# Altium schematic symbol library Master JULY2019.SchLib: 264 symbols (part 3 of 4)
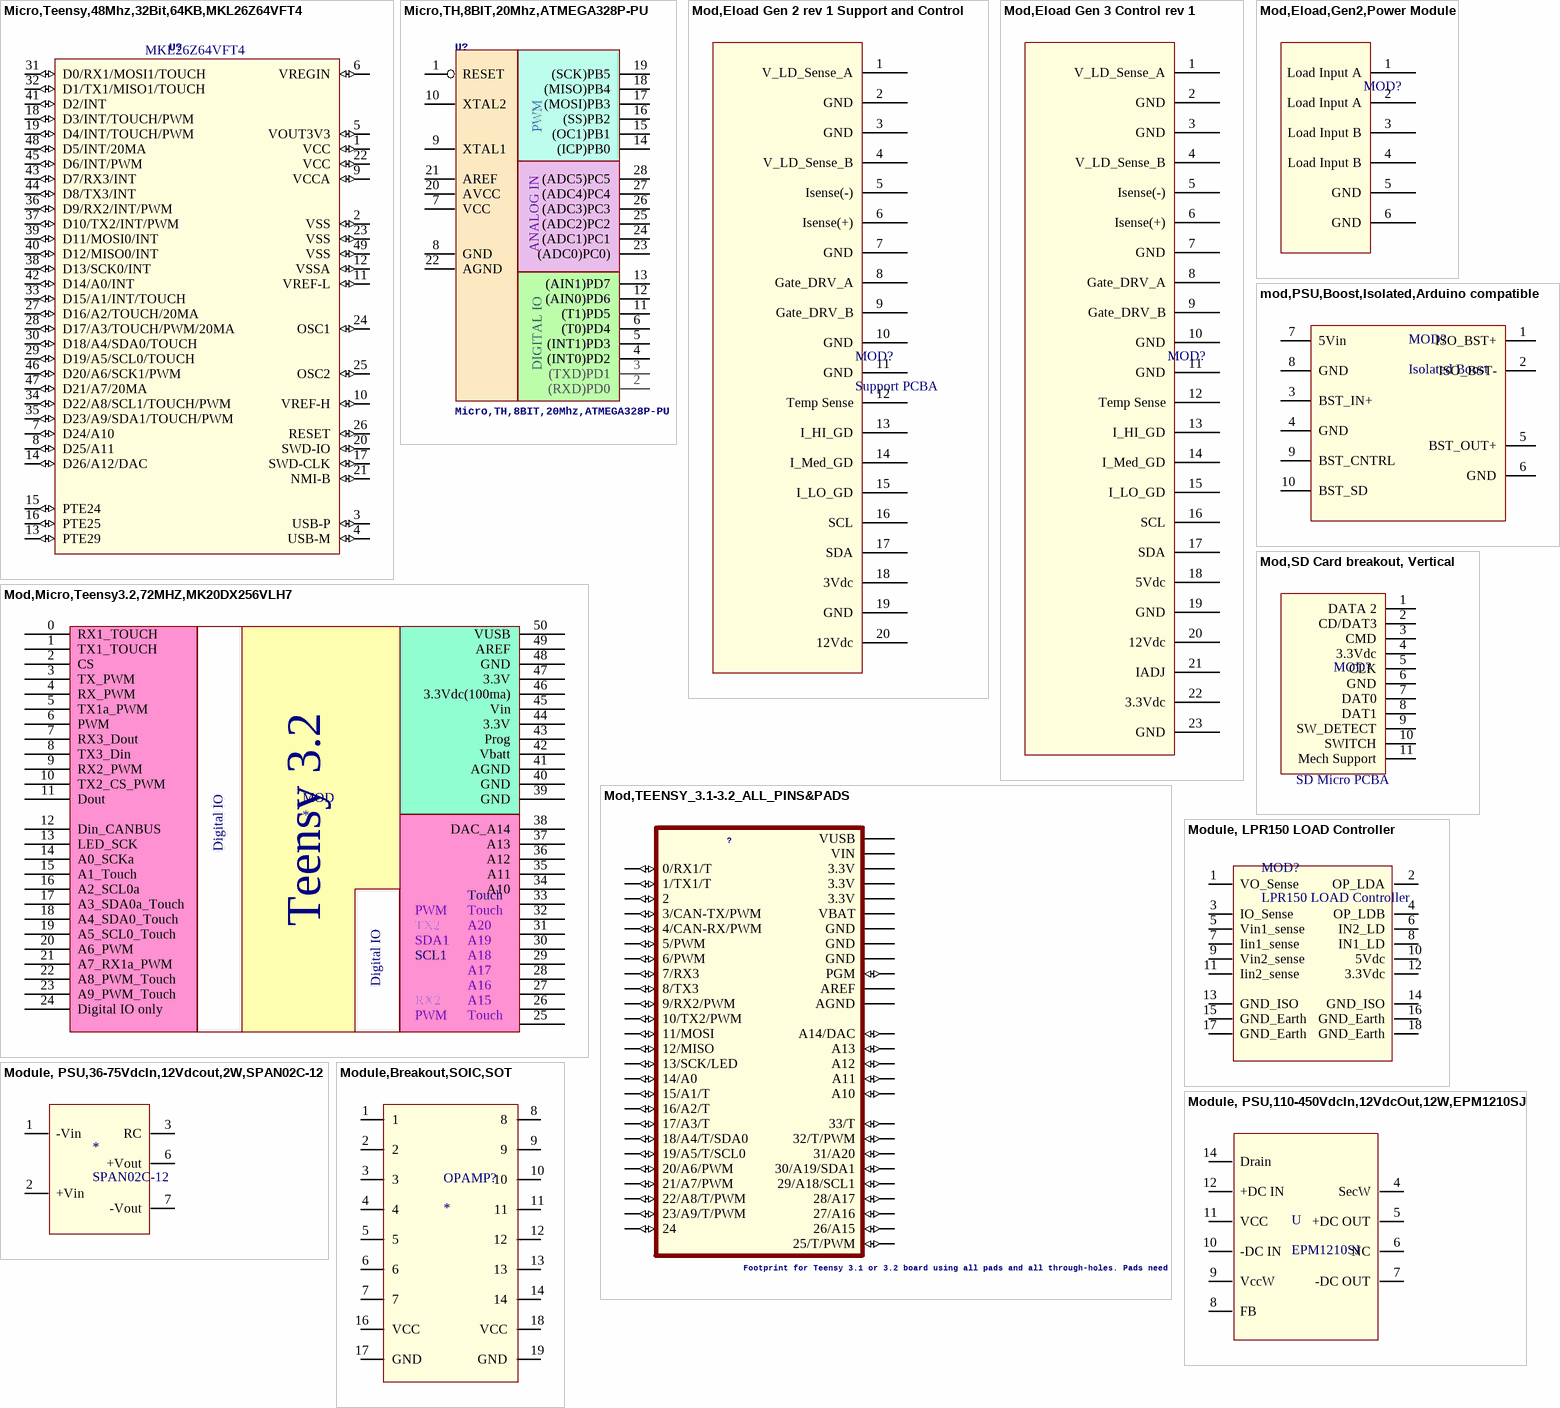
[diagram p11: symbols Micro,Teensy,48Mhz,32Bit,64KB,MKL26Z64VFT4 to Module,Breakout,SOIC,SOT]

## Mod,Eload,Gen2,Power Module
designator MOD?, comment Gen 2 Eload Power Module  (value not drawn)
footprint MOD,Eload Power Mod (Eload gen 2 rev 1 with control rev 1)
pins: 1 Load Input A, 2 Load Input A, 3 Load Input B, 4 Load Input B, 5 GND, 6 GND

## Mod,Micro,Teensy3.2,72MHZ,MK20DX256VLH7
designator MOD
Teensy3.2 USB Development Board
pins: 0 RX1_TOUCH, 1 TX1_TOUCH, 2 CS, 3 TX_PWM, 4 RX_PWM, 5 TX1a_PWM, 6 PWM, 7 RX3_Dout, 8 TX3_Din, 9 RX2_PWM, 10 TX2_CS_PWM, 11 Dout, 12 Din_CANBUS, 13 LED_SCK, 14 A0_SCKa, 15 A1_Touch, 16 A2_SCL0a, 17 A3_SDA0a_Touch, 18 A4_SDA0_Touch, 19 A5_SCL0_Touch, 20 A6_PWM, 21 A7_RX1a_PWM, 22 A8_PWM_Touch, 23 A9_PWM_Touch, 24 Digital IO only, 25, 26, 27, 28, 29, 30, 31, 32, 33, 34 A10, 35 A11, 36 A12, 37 A13, 38 DAC_A14, 39 GND, 40 GND, 41 AGND, 42 Vbatt, 43 Prog, 44 3.3V, 45 Vin, 46 3.3Vdc(100ma), 47 3.3V, 48 GND, 49 AREF, 50 VUSB
text: Digital IO; Touch; Teensy 3.2; TX2; A20; SDA1; A19; SCL1; A18; A17; A16; RX2; A15

## mod,PSU,Boost,Isolated,Arduino compatible
designator MOD?, comment Isolated Boost
PSU,Boost,Isolated,Arduino compatible; Volt Range: 5-18Vdc; Current: 100mA
footprint Mod,Boost,5-18Vdc,100ma,Isolated
pins: 1 ISO_BST+, 2 ISO_BST-, 3 BST_IN+, 4 GND, 5 BST_OUT+, 6 GND, 7 5Vin, 8 GND, 9 BST_CNTRL, 10 BST_SD

## Mod,SD Card breakout, Vertical
designator MOD?, comment Discription: SD Micro PCBA  (hidden comment: SD Card Connector Breakout)
footprint Mod, SD Card Connector Breakout (SD Card Connector Breakout)
pins: 1 DATA 2, 2 CD/DAT3, 3 CMD, 4 3.3Vdc, 5 CLK, 6 GND, 7 DAT0, 8 DAT1, 9 SW_DETECT, 10 SWITCH, 11 Mech Support

## Mod,TEENSY_3.1-3.2_ALL_PINS&PADS
designator ?, comment Footprint for Teensy 3.1 or 3.2 board using all pads and all through-holes. Pads need a 2x7 0.1" SMD header.
GateName_1: G$1; SymbolName_1: TEENSY_3.1-3.2_ALL_PINS_AND_PADS; DeviceSetName: TEENSY_3.1-3.2_ALL_PINS&PADS; LibraryName: Teensy_3_and_LC_Series_Boards_v1.4; Package: TEENSY_3.0-3.2_ALL_PINS_&_PADS
footprint TEENSY_3.0-3.2_ALL_PINS_&_PADS
pins: 0 0/RX1/T (io), 1 1/TX1/T (io), 2 (io), 3 3/CAN-TX/PWM (io), 3.3V (power), 3.3V1 3.3V (power), 3.3V2 3.3V (power), 4 4/CAN-RX/PWM (io), 5 5/PWM (io), 6 6/PWM (io), 7 7/RX3 (io), 8 8/TX3 (io), 9 9/RX2/PWM (io), 10 10/TX2/PWM (io), 11 11/MOSI (io), 12 12/MISO (io), 13 13/SCK/LED (io), 14/A0 (io), 15/A1 15/A1/T (io), 16/A2 16/A2/T (io), 17/A3 17/A3/T (io), 18/A4 18/A4/T/SDA0 (io), 19/A5 19/A5/T/SCL0 (io), 20/A6 20/A6/PWM (io), 21/A7 21/A7/PWM (io), 22/A8 22/A8/T/PWM (io), 23/A9 23/A9/T/PWM (io), 24 (io), 25 25/T/PWM (io), 26 26/A15 (io), 27 27/A16 (io), 28 28/A17 (io), 29 29/A18/SCL1 (io), 30 30/A19/SDA1 (io), 31 31/A20 (io), 32 32/T/PWM (io), 33 33/T (io), A10 (io), A11 (io), A12 (io), A13 (io), AGND (power), AREF (power), GND (power), GND1 GND (power), GND2 GND (power), PGM (io), RESET/DAC A14/DAC (io), VBAT (power), VIN (power), VUSB (power)

## Module, LPR150 LOAD Controller
designator MOD?, comment LPR150 LOAD Controller
footprint Module, LPR150 LOAD Controller
footprint Module, LPR150 LOAD Controller-No 3d
pins: 1 VO_Sense, 2 OP_LDA, 3 IO_Sense, 4 OP_LDB, 5 Vin1_sense, 6 IN2_LD, 7 Iin1_sense, 8 IN1_LD, 9 Vin2_sense, 10 5Vdc, 11 Iin2_sense, 12 3.3Vdc, 13 GND_ISO, 14 GND_ISO, 15 GND_Earth, 16 GND_Earth, 17 GND_Earth, 18 GND_Earth

## Module, PSU,36-75VdcIn,12Vdcout,2W,SPAN02C-12
designator *, comment SPAN02C-12
Isolated Module DC DC Converter 1 Output 12V 167mA 36V - 75V Input; Number of Outputs: 1; Power (Watts): 2W; Voltage - Isolation: 1500V; Efficiency: 82%; mfg P/N: SPAN02C-12; Type: Isolated Module; Voltage - Input (Min): 36V; Voltage - Input (Max): 75V; Voltage - Output 1: 12V; Current - Output (Max): 167mA; Applications: ITE (Commercial); Features: Remote On/Off, OCP, SCP, UVLO; Operating Temperature: -40°C ~ 90°C (With Derating); Mounting Type: Through Hole; Package / Case: 8-SIP Module, 7 Leads; Size / Dimension: 0.86" L x 0.36" W x 0.44" H (21.8mm x 9.2mm x 11.1mm)
footprint Module, PSU, SPAN02C-12 (Isolated Module DC DC Converter 1 Output 12V 1A 110V - 450V Input)
pins: 1 -Vin, 2 +Vin, 3 RC, 5 NC hidden, 6 +Vout, 7 -Vout, 8 NC hidden

## Module, PSU,110-450VdcIn,12VdcOut,12W,EPM1210SJ
designator U, comment EPM1210SJ
Isolated Module DC DC Converter 1 Output 12V 1A 110V - 450V Input; Number of Outputs: 1; Power (Watts): 12W; Voltage - Isolation: 3kV; Efficiency: 80%; mfg P/N: EPM1210SJ; Type: Isolated Module; Voltage - Input (Min): 110V; Voltage - Input (Max): 450V; Voltage - Output 1: 12V; Current - Output (Max): 1A; Applications: ITE (Commercial); Features: OCP, OTP, OVP; Operating Temperature: -20°C ~ 80°C; Mounting Type: Through Hole; Package / Case: 14-DIP Module; Size / Dimension: 1.30" L x 1.22" W x 0.81" H (33.0mm x 31.0mm x 20.7mm)
footprint Module, PSU, EPM1210SJ (Isolated Module DC DC Converter 1 Output 12V 1A 110V - 450V Input)
pins: 4 SecW, 5 +DC OUT, 6 NC, 7 -DC OUT, 8 FB, 9 VccW, 10 -DC IN, 11 VCC, 12 +DC IN, 14 Drain

## Module,Breakout,SOIC,SOT
designator OPAMP?
footprint Module, OPAMP PCB Breakout interface 2 (Module, OPAMP Breakout Board - SOIC8)
pins: 1, 2, 3, 4, 5, 6, 7, 8, 9, 10, 11, 12, 13, 14, 16 VCC, 17 GND, 18 VCC, 19 GND

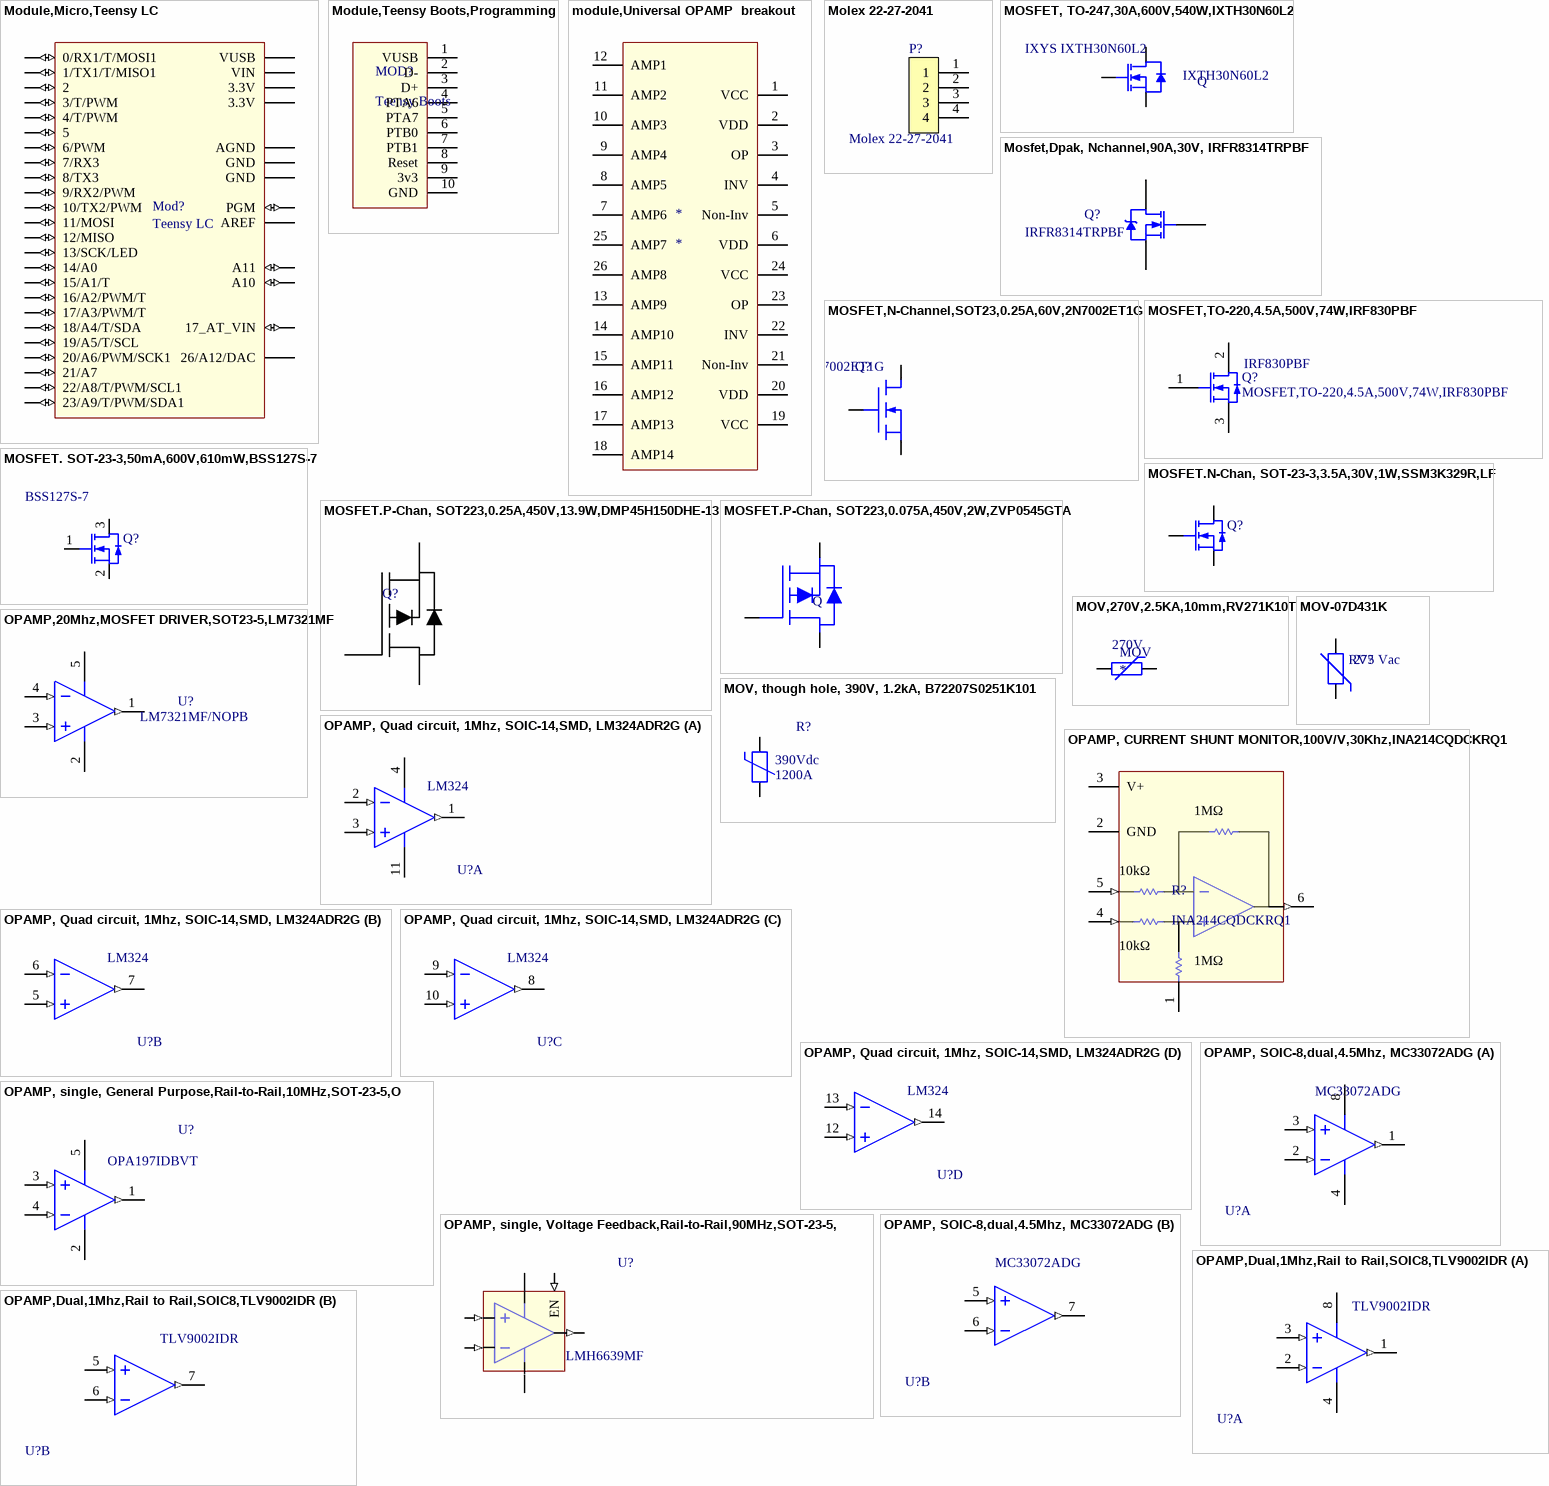
[diagram p6: symbols Module,Micro,Teensy LC to OPAMP,Dual,1Mhz,Rail to Rail,SOIC8,TLV9002IDR]

## Module,Micro,Teensy LC
designator Mod?, comment Teensy LC
DEV TEENSY LC 13305; Manufacturer 1: SparkFun; Manufacturer Part Number 1: DEV-13305; Supplier 1: Digi-Key; Stock 1: 113; Pricing 1: 1=14.38000 (USD); RoHS: No; ComponentLink1URL: https://media.digikey.com/pdf/Data%20Sheets/Sparkfun%20PDFs/DEV-13305_Web.pdf?src-supplier=Digi-Key; ComponentLink1Description: https://media.digikey.com/pdf/Data%20Sheets/Sparkfun%20PDFs/DEV-13305_Web.pdf?src-supplier=Digi-Key; Supplier Part Number 1: 1568-1233-ND
footprint TEENSY_3.0-3.2&LC_ALL_PINS
pins: 0 0/RX1/T/MOSI1 (io), 1 1/TX1/T/MISO1 (io), 2 (io), 3 3/T/PWM (io), 3.3V (power), 3.3V1 3.3V (power), 4 4/T/PWM (io), 5 (io), 6 6/PWM (io), 7 7/RX3 (io), 8 8/TX3 (io), 9 9/RX2/PWM (io), 10 10/TX2/PWM (io), 11 11/MOSI (io), 12 12/MISO (io), 13 13/SCK/LED (io), 14/A0 (io), 15/A1 15/A1/T (io), 16/A2 16/A2/PWM/T (io), 17/A3 17/A3/PWM/T (io), 18/A4 18/A4/T/SDA (io), 19/A5 19/A5/T/SCL (io), 20/A6 20/A6/PWM/SCK1 (io), 21/A7 (io), 22/A8 22/A8/T/PWM/SCL1 (io), 23/A9 23/A9/T/PWM/SDA1 (io), A10 (io), A11 (io), AGND (power), AREF (power), GND (power), GND1 GND (power), PGM (io), RESET/DAC 26/A12/DAC (power), VBAT 17_AT_VIN (io), VIN (power), VUSB (power)

## Module,Teensy Boots,Programming
designator MOD?, comment Teensy Boots
footprint Mod,Teensy Boots (Teensy bootloader breakout module)
pins: 1 VUSB, 2 D-, 3 D+, 4 PTA6, 5 PTA7, 6 PTB0, 7 PTB1, 8 Reset, 9 3v3, 10 GND

## module,Universal OPAMP  breakout
designator *
footprint Module, OPAMP PCB Breakout interface (Module, OPAMP Breakout Board - SOIC8)
pins: 1 VCC, 2 VDD, 3 OP, 4 INV, 5 Non-Inv, 6 VDD, 7 AMP6, 8 AMP5, 9 AMP4, 10 AMP3, 11 AMP2, 12 AMP1, 13 AMP9, 14 AMP10, 15 AMP11, 16 AMP12, 17 AMP13, 18 AMP14, 19 VCC, 20 VDD, 21 Non-Inv, 22 INV, 23 OP, 24 VCC, 25 AMP7, 26 AMP8

## Molex 22-27-2041
designator P?
2.54mm (.100") Pitch KK® Wire-to-Board Header, Vertical, with Friction Lock, 3 Circuits, Tin (Sn) Plating; Number of Positions: 4; Lead-Free Status: Lead Free; Gender: Male; Contact Resistance: 20.0 mΩ; Insulation Resistance: 50.0 GΩ; Voltage Rating (AC): 250 V; Current Rating: 4.00 A; Mounting Style: Through Hole, Vertical; Number of Contacts: 4; Contact Material: Brass; Housing Material: Nylon; Packaging: Bag; RoHS: Compliant; Size-Length: 10.2 mm; Contact Plating: Tin; Size-Height: 11.7 mm; Housing Color: Natural; Orientation: Vertical; Number of Rows: 1; Manufacturer Part Number: 22-27-2041; Pin Pitch: 2.54 mm; Lifecycle Status: Not Listed by Manufacturer; Color: White; Size-Width: 5.80 mm; Supplier 1: Newark; Supplier 2: Farnell; Supplier 3: Farnell
footprint conn, molex, 0.1", 4 pin (4 pin molex connect with 0.1" spacing)
pins: 1 (power), 2 (power), 3 (power), 4 (power)

## MOSFET, TO-247,30A,600V,540W,IXTH30N60L2
designator Q, comment IXYS IXTH30N60L2  Manufacturer Part Number: IXTH30N60L2
Trans MOSFET N-CH 600V 30A Automotive 3-Pin(3+Tab) TO-247AD; Polarity: N-Channel; Power Dissipation: 540 W; Octopart URL: https://octopart.com/ixth30n60l2-ixys-18669628; Operating Temperature: -55.0 °C to 150 °C; Number of Pins: 3; REACH SVHC Compliance: No SVHC; RoHS: Compliant; OctopartID: 771bbf0db241a8dc
footprint TO-247-RA (FM, 3-Leads, Body 5.02x15.94mm, Pitch 5.44mm)
footprint TO-247 Vertical (FM, 3-Leads, Body 5.02x15.94mm, Pitch 5.44mm)
pins: 1 GATE, 2 DRAIN, 3 SOURCE

## Mosfet,Dpak, Nchannel,90A,30V, IRFR8314TRPBF
designator Q?, comment Manufacturer Part Number: IRFR8314TRPBF  (hidden comment: Infineon IRFR8314TRPBF)
Single N-Channel 30 V 2.2 mOhm 36 nC HEXFET® Power Mosfet - DPAK; Lead-Free Status: Lead Free; Rds On (Max) @ Id, Vgs: 2.2 mOhm @ 90A, 10V; Drain to Source Voltage (Vdss): 30V; Power Dissipation (Max): 125W; Input Capacitance (Ciss) (Max) @ Vds: 4945pF @ 15V; Drive Voltage (Max Rds On, Min Rds On): 4.5V, 10V; Vgs (Max): ±20V; Lifecycle Status: Not Listed by Manufacturer; Operating Temperature: 175 °C (max); Polarity: N-Channel; RoHS: Compliant; Supplier Device Package: D-PAK (TO-252AA); Series: HEXFET®
footprint DPAK,3-Leads (DPAK, 3-Leads, Body 6.54x6.095mm, Pitch 2.29mm)
pins: 1 G, 2 S, 3 D

## MOSFET,N-Channel,SOT23,0.25A,60V,2N7002ET1G
designator Q?, comment 2N7002ET1G
Small Signal MOSFET, 60 V, 310 mA, Single, N-Channel, 3-Pin SOT-23, Pb-Free, Tape and Reel; Manufacturer: ON Semiconductor; Continuous Drain Current (Ids): 0.25A; Lead-Free Status: Lead Free; Drain to Source Voltage (Vds): 60.0 V; Power Dissipation (Max): 350mW (Ta); REACH SVHC Compliance: No SVHC; Number of Pins: 3; Halogen Free Status: Halogen Free; Case/Package: SOT-23-3; Polarity: N-Channel; RoHS: Compliant; Lifecycle Status: Active; Manufacturer Part Number: 2N7002ET1G
footprint SOT23-3
pins: 1 G, 2 S, 3 D

## MOSFET,TO-220,4.5A,500V,74W,IRF830PBF
designator Q?  Manufacturer Part Number: IRF830PBF
Single N-Channel 500 V 1.5 Ohms Flange Mount Power Mosfet - TO-220-3; Lead-Free Status: Lead Free; Current Rating: 4.50 A; Breakdown Voltage [Gate to Source]: -20.0 V to 20.0 V; Gate Charge: 38.0 nC; Rise Time: 16.0 ns; Drain to Source Resistance (on) (Rds): 1.50 Ω; Power Dissipation: 74.0 W; Input Capacitance: 610 pF; Drain to Source Voltage (Vds): 500 V; Lifecycle Status: Not Listed by Manufacturer; Voltage Rating (DC): 500 V; Continuous Drain Current (Ids): 4.50 A; Mounting Style: Through Hole; REACH SVHC Compliance: No SVHC; RoHS: Compliant; Number of Pins: 3; Polarity: N-Channel; Packaging: Tube
footprint TO-220 (TO, Thru-Hole, Vertical, Heatsink Mounted; 3 In-Line Leads; Pitch 2.54 mm)
pins: 1 G, 2 D, 3 S

## MOSFET. SOT-23-3,50mA,600V,610mW,BSS127S-7
designator Q?, comment Manufacturer Part Number: BSS127S-7  (hidden comment: Diodes Inc. BSS127S-7)
Single N-Channel 600 V 190 Ohm 1.08 nC 1.25 W Silicon SMT Mosfet - SOT-23; Lead-Free Status: Lead Free; Drain to Source Voltage (Vdss): 600Vdc; Current - Continuous Drain (Id) @ 25°C: 50mA; Power Dissipation (Max): 610mW; RoHS: Compliant; REACH SVHC Compliance: No SVHC; Mounting Style: Surface Mount; Lifecycle Status: Active; Supplier 1: Allied; Supplier 2: Digi-Key; Supplier 3: Digi-Key; Supplier 4: Digi-Key; Supplier 5: TME; Supplier Part Number 1: 70551124; Supplier Part Number 2: BSS127S-7DITR-ND; Supplier Part Number 3: BSS127S-7DICT-ND; Supplier Part Number 4: BSS127S-7DIDKR-ND; Supplier Part Number 5: BSS127S-7
footprint SOT23-3
pins: 1 G, 2 S, 3 D

## MOSFET.N-Chan, SOT-23-3,3.5A,30V,1W,SSM3K329R,LF
designator Q?, comment SSM3K329R,LF  (value not drawn)
N-Channel 30V 3.5A (Ta) 1W (Ta) Surface Mount SOT-23F; Lead-Free Status: Lead Free; Drain to Source Voltage (Vdss): 30Vdc; Technology MOSFET: (Metal Oxide); Drive Voltage (Max Rds On, Min Rds On): 1.8V, 4V; Rds On (Max) @ Id, Vgs: 126 mOhm @ 1A, 4V; Vgs(th) (Max) @ Id: 1V @ 1mA; Gate Charge (Qg) (Max) @ Vgs: 1.5nC @ 4V; Vgs (Max): ±12V; Input Capacitance (Ciss) (Max) @ Vds: 123pF @ 15V; RoHS: Compliant; REACH SVHC Compliance: No SVHC; Mounting Style: Surface Mount; Lifecycle Status: Active; Current - Continuous Drain (Id) @ 25°C: 3.5A; Power Dissipation (Max): 1W; FET Type: N-Channel; Operating Temperature: 150°C (TJ); Mounting Type: Surface Mount; Supplier Device Package: SOT-23F; Package / Case: SOT-23-3  Flat Leads; mfg P/N: SSM3K329R,LF
footprint SOT23-3
pins: 1 G, 2 S, 3 D

## MOSFET.P-Chan, SOT223,0.25A,450V,13.9W,DMP45H150DHE-13
designator Q?, comment DMP45H150DHE-13  (value not drawn)
P-Channel 450V 75mA (Ta) 2W (Ta) Surface Mount SOT-223; Manufacturer: Diodes Incorporated; Rds On (Max) @ Id, Vgs: 150Ohm @ 50mA, 10V; Vgs(th) (Max) @ Id: 4V @ 250µA; Vgs (Max): ±30V; Input Capacitance (Ciss) (Max) @ Vds: 59.2pF @ 25V; Power Dissipation (Max): 2W (Ta); Current - Continuous Drain (Id) @ 25°C: 250mA (Tc); Drive Voltage (Max Rds On, Min Rds On): 10V; Gate Charge (Qg) (Max) @ Vgs: 1.8nC @ 10V; mfg P/N: DMP45H150DHE-13; FET Type: P-Channel; Technology: MOSFET (Metal Oxide); Operating Temperature: -55°C ~ 150°C (TJ); Mounting Type: Surface Mount; Supplier Device Package: SOT-223; Package / Case: TO-261-4, TO-261AA; Drain to Source Voltage (Vdss): 450V
footprint SOT-223
pins: 1 G, 2 D, 3 S, 4 D

## MOSFET.P-Chan, SOT223,0.075A,450V,2W,ZVP0545GTA
designator Q, comment ZVP0545GTA  (value not drawn)
P-Channel 450V 75mA (Ta) 2W (Ta) Surface Mount SOT-223; Manufacturer: Diodes Incorporated; Rds On (Max) @ Id, Vgs: 150Ohm @ 50mA, 10V; Vgs(th) (Max) @ Id: 4.5V @ 1mA; Vgs (Max): ±20V; Input Capacitance (Ciss) (Max) @ Vds: 120pF @ 25V; Power Dissipation (Max): 2W (Ta); Drive Voltage (Max Rds On, Min Rds On): 10V; mfg P/N: ZVP0545GTA; FET Type: P-Channel; Technology: MOSFET (Metal Oxide); Operating Temperature: -55°C ~ 150°C (TJ); Mounting Type: Surface Mount; Supplier Device Package: SOT-223; Package / Case: TO-261-4, TO-261AA; Drain to Source Voltage (Vdss): 450V; Current - Continuous Drain (Id) @ 25°C: 75mA (Ta)
footprint SOT-223
pins: 1 G, 2 D, 3 S

## MOV,270V,2.5KA,10mm,RV271K10T
designator MOV  Varistor Voltage (Typ): 270V
VARISTOR 270V 2.5KA DISC 10MM; Maximum AC Volts: 175V; mfg P/N: RV271K10T; Maximum DC Volts: 225V; Varistor Voltage (Min): 243V; Varistor Voltage (Max): 297V; Energy: 37J; Number of Circuits: 1; Capacitance @ Frequency: 370pF @ 1kHz; Current - Surge: 2.5kA; Operating Temperature: -40°C ~ 85°C (TA); Mounting Type: Through Hole; Package / Case: Disc 10mm
footprint MOV,10MM Disc
pins: 1, 2

## MOV, though hole, 390V, 1.2kA, B72207S0251K101
designator R?  DC Clamping Voltage: 390Vdc  Clamping Current: 1200A  (hidden comment: MOV, though hole, 390V, 1.2kA, B72207S0251K101)
390V 1.2kA Varistor 1 Circuit Through Hole Disc 7mm; Lead-Free Status: Lead Free; Maximum AC Volts: 250Vac; Maximum DC Volts: 320V; Varistor Voltage (Min): 351V; Varistor Voltage (Max): 429V; Energy: 19J; Capacitance @ Frequency: 65pF @ 1kHz; Mounting Style: Through Hole; mfg P/N: B72207S0251K101; RoHS: Compliant; Octopart URL: http://octopart.com/b72207s251k101-epcos-2640242; Varistor Voltage (Typ): 390V; Operating Temperature: -40°C ~ 105°C (TA); Mounting Type: Through Hole; Package / Case: Disc 7mm
footprint MOV, 5mm spacing
pins: 1, 2

## MOV-07D431K
designator RV?, comment Maximum AC Voltage Rating: 275 Vac  (hidden comment: Bourns Inc. MOV-07D431K)
VARISTOR 460V 7MM RADIAL; Maximum DC Voltage Rating: 350 V; Varistor Voltage: 430 Vdc; Clamping Current: 10 A; Rad Hard: No; Maximum Surge Current: 1200 A; Capacitance Value: 115 pF; Packaging: Bulk; Manufacturer Part Number: MOV-07D431K; Operating Temperature: -40 to 85 °C
footprint MOV, 5mm spacing
pins: 1, 2

## OPAMP,20Mhz,MOSFET DRIVER,SOT23-5,LM7321MF
designator U?, comment LM7321MF/NOPB
Single Rail-to-Rail Input/Output, ±15V, High Output Current and Unlimited Capacitive Load Operational Amplifier, 5-pin SOT-23, Pb-Free; Bandwidth: 20000000.0 Hz; Input Offset Drift: 2e-06 V/K; Lead-Free Status: Lead Free; Number of Channels: 1; Output Current: 0.06 A; Slew Rate: 18.0 V/μs; Case/Package: SOIC; Gain Bandwidth Product: 20000000.0 Hz; Lifecycle Status: Active; Mounting Style: Surface Mount; Number of Pins: 5; Packaging: Tape & Reel (TR); REACH SVHC Compliance: No SVHC; RoHS: Compliant; mfg P/N: LM7321MF/NOPB; Supplier 1: Digi-Key; Supplier Part Number 1: LM7321MF/NOPBCT-ND; Supplier 2: LCSC; Supplier Part Number 2: C128614
footprint SOT23-5
pins: 1 OUT (out), 2 V- (power), 3 IN+ (in), 4 IN- (in), 5 V+ (power)

## OPAMP, CURRENT SHUNT MONITOR,100V/V,30Khz,INA214CQDCKRQ1
designator R?, comment INA214CQDCKRQ1
Current Sense Amplifier 1 Circuit SC-70-6; Manufacturer: Texas Instruments; Slew Rate: 0.4 V/µs; Gain Bandwidth Product: 30kHz; Current - Input Bias: 28µA; Voltage - Input Offset: 1µV; Current - Supply: 65µA; Voltage - Supply, Single/Dual (±): 2.7 V ~ 26 V; Amplifier Type: Current Sense; Operating Temperature: -40°C ~ 125°C; Mounting Type: Surface Mount; Package / Case: 6-TSSOP, SC-88, SOT-363; Supplier Device Package: SC-70-6; Supplier 1: Digi-Key; Supplier Part Number 1: 296-51151-1-ND
footprint SC-70-6
pins: 1 REF, 2 GND (power), 3 V+ (power), 4 IN+  (in), 5 IN1- (in), 6 OUT1 (out)
text: 1MΩ; 10kΩ

## OPAMP, Quad circuit, 1Mhz, SOIC-14,SMD, LM324ADR2G
designator U?, comment Mfg P/N: LM324  (hidden comment: LM324ADR2G)
Single Supply Quad Operational Amplifier, 3 to 32 V, 0 to 70 degC, 14-Pin SOIC, Pb-Free, Tape and Reel; Bandwidth: 1MHz; Lead-Free Status: Lead Free; Number of Channels: 4; Slew Rate: 0.6 V/μs; Case/Package: SOIC; Halogen Free Status: Halogen Free; Lifecycle Status: Active; Mounting Style: Surface Mount; Number of Circuits: 4; Number of Pins: 14; Packaging: Cut Tape (CT); RoHS: Compliant; Supplier 1: Digi-Key; Supplier Part Number 1: LM324ADR2GOSCT-ND; Supplier 2: LCSC; Supplier Part Number 2: C81465
footprint SOIC-14 (SOIC, 14-Leads, Body 8.75x4mm, Pitch 1.27mm)
part A pins: 1 OUT1 (out), 2 IN1- (in), 3 IN1+ (in), 4 VCC (power), 11 GND (power)
part B pins: 5 IN2+ (in), 6 IN2- (in), 7 OUT2 (out)
part C pins: 8 OUT3 (out), 9 IN3- (in), 10 IN3+ (in)
part D pins: 12 IN4+ (in), 13 IN4- (in), 14 OUT4 (out)

## OPAMP, single, General Purpose,Rail-to-Rail,10MHz,SOT-23-5,OPA197IDBVT
designator U?, comment OPA197IDBVT
General Purpose Amplifier 1 Circuit Rail-to-Rail SOT-23-5; Manufacturer: Texas Instruments; Supply Current: 1mA; Number of Channels: 1; Slew Rate: 20V/μs; Gain Bandwidth Product: 10MHz; Voltage - Input Offset: 25uV; Current - Output / Channel: 65mA; Current - Input Bias: 5pA; Voltage - Supply, Single/Dual (±): 4.5 V ~ 36 V, ±2.25 V ~ 18 V; REACH SVHC Compliance: No SVHC; Operating Temperature: -40°C ~ 125°C; Supplier Device Package: SOT-23-5; Supplier 1: LCSC; Supplier Part Number 1: C131929; Supplier 2: Digi-Key; Supplier Part Number 2: 296-44076-6-ND; Mfg P/N: OPA197IDBVT
footprint SOT23-5
pins: 1 1OUT (out), 2 V- (power), 3 1IN+ (in), 4 1IN- (in), 5 V+ (power)

## OPAMP, single, Voltage Feedback,Rail-to-Rail,90MHz,SOT-23-5,LMH6639MF
designator U?, comment Mfg P/N: LMH6639MF  (hidden comment: OPA197IDBVT)
IC OPAMP VFB 90MHZ RRO SOT23-6; Manufacturer: Texas Instruments; Supply Current: 4.18mA; Number of Channels: 1; Slew Rate: 200 V/µs; Voltage - Input Offset: 1.3mV; Current - Output / Channel: 112mA; Current - Input Bias: 1.4µA; Voltage - Supply, Single/Dual (±): 3 V ~ 12 V, ±1.5 V ~ 6 V; Amplifier Type: Voltage Feedback; REACH SVHC Compliance: No SVHC; Gain Bandwidth Product: 90MHz; Operating Temperature: -40°C ~ 85°C; Supplier Device Package: SOT-23-6; Supplier 1: Digi-Key; Supplier Part Number 1: 296-44076-6-ND; Supplier 2: LCSC; Supplier Part Number 2: C131929
footprint SOT23-6 (SOT23, 6-Leads, Body 3.0x1.7mm, Pitch 0.95mm, Lead Span 2.9mm, IPC High Density)
pins: 1 1OUT (out), 2 V- (power), 3 1IN+ (in), 4 1IN- (in), 5 EN (in), 6 V+ (power)

## OPAMP, SOIC-8,dual,4.5Mhz, MC33072ADG
designator U?, comment MC33072ADG
Single Supply Operational Amplifier, 3 to 44 V, -40 to 85 degC, 8-Pin SOIC, Pb-Free, Tube; Bandwidth: 4.5MHz; Lead-Free Status: Lead Free; Number of Circuits: 2; Slew Rate: 13.0 V/μs; Supply Voltage (DC): 44.0 V; Case/Package: SOIC; Halogen Free Status: Halogen Free; Lifecycle Status: Active; Mounting Style: Surface Mount; Number of Pins: 8; Packaging: Tube; REACH SVHC Compliance: No SVHC; RoHS: Compliant; Supplier 1: LCSC; Supplier Part Number 1: C26356; Supplier 2: Digi-Key; Supplier Part Number 2: MC33072ADR2GOSCT-ND; mfg P/N: MC33072ADG
footprint SOIC-8 (SOIC, 8-Leads, Body 4.9x3.9mm, Pitch 1.27mm, IPC Medium Density)
part A pins: 1 OUT1 (out), 2 IN1- (in), 3 IN1+ (in), 4 GND (oe), 8 VCC (oe)
part B pins: 5 IN2+ (in), 6 IN2- (in), 7 OUT2 (out)

## OPAMP,Dual,1Mhz,Rail to Rail,SOIC8,TLV9002IDR
designator U?, comment TLV9002IDR
General Purpose Amplifier 2 Circuit Rail-to-Rail 8-SOIC; Bandwidth: 1MHz; Lead-Free Status: Lead Free; Number of Circuits: 2; Slew Rate: 2 V/μs; Supply Voltage (DC): 1.8 V ~ 5.5 V; Voltage - Input Offset: 400µV; Current - Input Bias: 5pA; Current - Supply: 60µA; Case/Package: SOIC; Halogen Free Status: Halogen Free; Lifecycle Status: Active; Mounting Style: Surface Mount; Number of Pins: 8; Packaging: Tube; REACH SVHC Compliance: No SVHC; RoHS: Compliant; Operating Temperature: -40°C ~ 125°C (TA); Supplier 1: Digi-Key; Supplier Part Number 1: 296-47596-1-ND; Supplier 2: LCSC; Supplier Part Number 2: C398360; mfg P/N: TLV9002IDR
footprint SOIC-8 (SOIC, 8-Leads, Body 4.9x3.9mm, Pitch 1.27mm, IPC Medium Density)
part A pins: 1 OUT1 (out), 2 IN1- (in), 3 IN1+ (in), 4 Gnd (power), 8 Vcc (power)
part B pins: 5 IN2+ (in), 6 IN2- (in), 7 OUT2 (out)

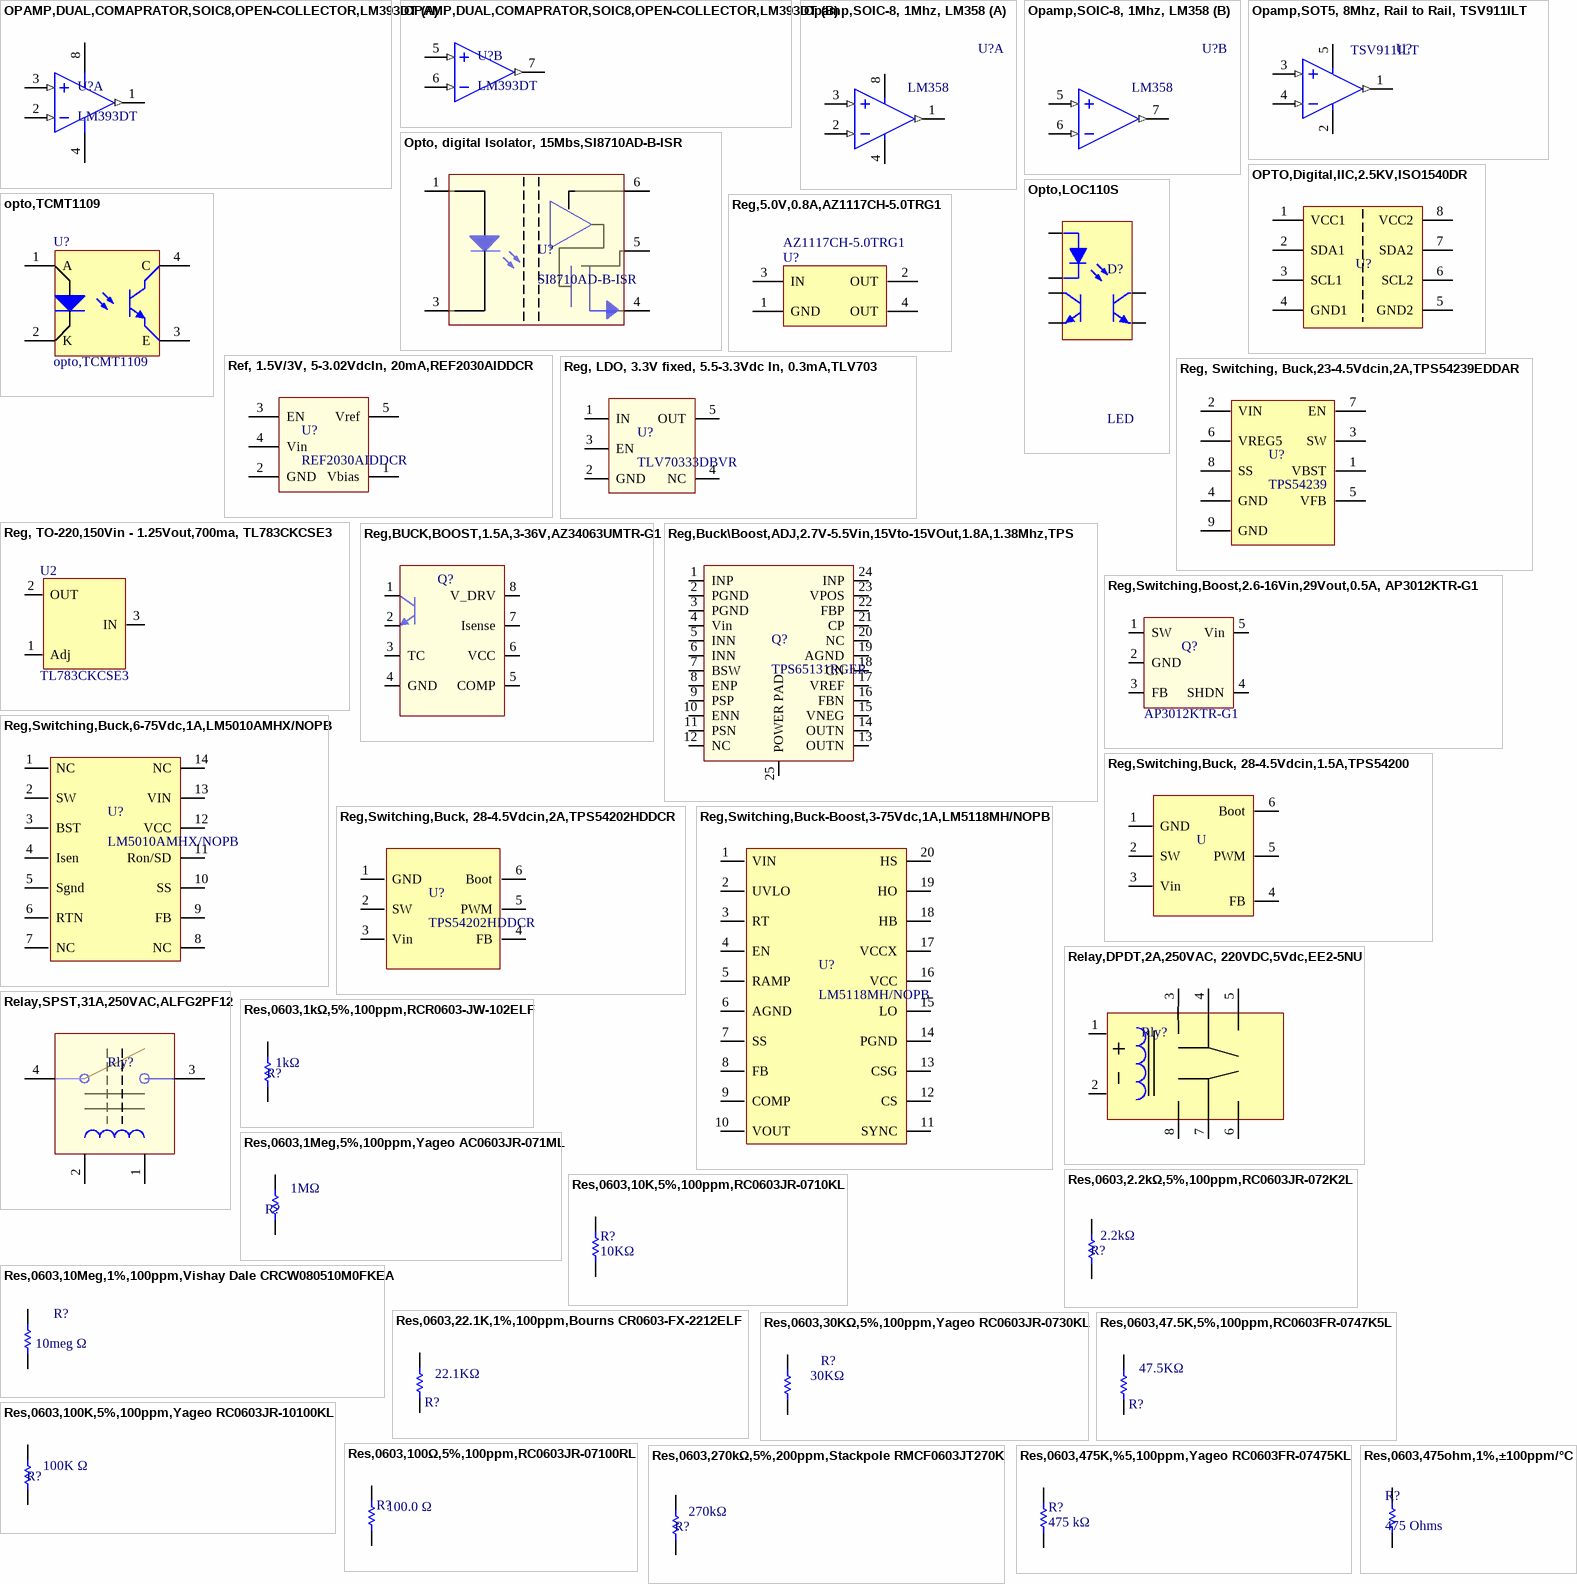
[diagram p7: symbols OPAMP,DUAL,COMAPRATOR,SOIC8,OPEN-COLLECTOR,LM393DT to Res,0603,475ohm,1%,±100ppm/°C]

## OPAMP,DUAL,COMAPRATOR,SOIC8,OPEN-COLLECTOR,LM393DT
designator U?, comment LM393DT
IC COMPARATOR LP DUAL 8-SOIC; Manufacturer: STMicroelectronics; Number of Elements: 2; Output Type: CMOS, DTL, ECL, MOS, Open-Collector, TTL; Voltage - Supply, Single/Dual (±): 2V ~ 36V, ±1V ~ 18V; Voltage - Input Offset (Max): 5mV @ 30V; Current - Input Bias (Max): 0.25µA @ 5V; Current - Output (Typ): 18mA @ 5V; Current - Quiescent (Max): 2.5mA; Package / Case 8-SOIC: (0.154", 3.90mm Width); mfg P/N:: LM393DT; Part Status: Active; Type: General Purpose; Operating Temperature: 0°C ~ 70°C; Mounting Type: Surface Mount; Supplier Device Package: 8-SO; Base Part Number: LM393; Supplier 1: Digi-Key; Supplier Part Number 1: 497-1593-1-ND; Supplier 2: LCSC; Supplier Part Number 2: C32901
footprint SOIC-8 (SOIC, 8-Leads, Body 4.9x3.9mm, Pitch 1.27mm, IPC Medium Density)
part A pins: 1 OUT1 (out), 2 IN1- (in), 3 IN1+ (in), 4 Gnd (power), 8 Vcc (power)
part B pins: 5 IN2+ (in), 6 IN2- (in), 7 OUT2 (out)

## Opamp,SOIC-8, 1Mhz, LM358
designator U?, comment LM358
IC OPAMP GP 1MHZ 8SOIC; Supply Current: 0.0007 A; Number of Channels: 2; Slew Rate: 0.6 V/μs; REACH SVHC Compliance: No SVHC; Supplier 1: Digi-Key; Supplier Part Number 1: 296-1014-1-ND; Supplier 2: LCSC; Supplier Part Number 2: C5423; mfg P/N: LM358
footprint SOIC-8 (SOIC, 8-Leads, Body 4.9x3.9mm, Pitch 1.27mm, IPC Medium Density)
part A pins: 1 1OUT (out), 2 1IN- (in), 3 1IN+ (in), 4 -Vin, 8 +Vin
part B pins: 5 2IN+ (in), 6 2IN- (in), 7 2OUT (out)

## Opamp,SOT5, 8Mhz, Rail to Rail, TSV911ILT
designator U?, comment TSV911ILT
General Purpose Amplifier 1 Circuit Rail-to-Rail SOT-23-5; Amplifier: Type General Purpose; Number of Circuits: 1; Slew Rate: 4.5 V/µs; Gain Bandwidth Product: 8MHz; Current - Input Bias: 1pA; Voltage - Input Offset: 100µV; Current - Supply: 820µA; Current - Output / Channel: 35mA; Voltage - Supply, Single/Dual (±): 2.5 V ~ 5.5 V; Output Type: Rail-to-Rail; Operating Temperature: -40°C ~ 125°C; Mounting Type: Surface Mount; Package / Case: SC-74A, SOT-753; Supplier Device Package: SOT-23-5; Supplier 1: Digi-Key; Supplier Part Number 1: 497-6000-1-ND; mfg P/N: TSV911ILT
footprint SOT23-5
pins: 1 1OUT (out), 2 -Vin, 3 1IN+ (in), 4 1IN- (in), 5 +Vin

## Opto, digital Isolator, 15Mbs,SI8710AD-B-ISR
designator U?, comment SI8710AD-B-ISR
DGTL ISO 5KV 1CH GEN PURP 6DIPGW; Detailed Description: General Purpose Digital Isolator 5000Vrms 1 Channel 15Mbps 20kV/µs CMTI 6-SOIC (0.295", 7.50mm Width); Isolated Power: No; Number of Channels: 1; Inputs - Side 1/Side 2: 1/0; Channel Type: Unidirectional; Voltage - Isolation: 5000Vrms; Common Mode Transient Immunity: (Min) 20kV/µs; Data Rate: 15Mbps; Propagation Delay tpLH / tpHL (Max): 60ns, 60ns; Pulse Width Distortion (Max): 20ns; Rise / Fall Time (Typ): 15ns, 5ns; Voltage - Supply: 3 V ~ 30 V; mfg P/N: SI8710AD-B-ISR; Technology: Capacitive Coupling; Type: General Purpose; Operating Temperature: -40°C ~ 125°C; Mounting Type: Surface Mount; Package / Case: 6-SOIC (0.295", 7.50mm Width); Supplier Device Package: 6-SDIP Gull Wing
footprint SOIC-6-Wide
pins: 1 A, 3 C, 4 GND, 5 VO, 6 VDD

## OPTO,Digital,IIC,2.5KV,ISO1540DR
designator U?  Pulse Width Distortion (PWD): 21ns  (hidden comment: OPTO,Digital,IIC,2.5KV,ISO1540DR)
DGTL ISO 2.5KV 2CH I2C 8SOIC; Manufacturer 1: Texas Instruments; Number of Channels: 2; Data Rate: 1Mbps; Min Supply Voltage: 3V; Max Supply Voltage: 5.5V; Nominal Supply Current: 3.6mA; Channel Type: Bidirectional; Propagation Delay: 70ns; Isolated Power: No; Working Voltage: 566V; Supplier 1: Digi-Key; Stock 1: 33237; Pricing 1: 1=4.80000, 10=4.31400, 100=3.53500, 500=3.00924, 1000=2.53792 (USD); RoHS: Yes; Mount: Surface Mount; Case/Package: SOIC; Number of Pins: 8; Min Operating Temperature: -40°C; Max Operating Temperature: 125°C; Packaging: Tape and Reel; Package Quantity: 1; REACH SVHC: No SVHC; Lead Free: Lead Free; Supplier Part Number 1: 296-34871-1-ND; mfg P/N: ISO1540DR
footprint SOIC-8 (SOIC, 8-Leads, Body 4.9x3.9mm, Pitch 1.27mm, IPC Medium Density)
pins: 1 VCC1, 2 SDA1, 3 SCL1, 4 GND1, 5 GND2, 6 SCL2, 7 SDA2, 8 VCC2

## Opto,LOC110S
designator D?, comment LED
LOC110 Series 1 Channel 3750 Vrms 200 KHz Phototransistor Optocoupler - DIP-8; Supplier 1: Digi-Key; Supplier 2: Digi-Key; Supplier 3: Digi-Key; Supplier Part Number 1: CLA114TR-ND; Supplier Part Number 2: LOC110S-ND; Supplier Part Number 3: CLA114CT-ND
footprint DIP, 8-Leads,SMD (DIP, 8-Leads, Body 9.59x6.35mm, Pitch 2.54mm)
pins: 1 LED-, 2 LED+, 3 +Vcc1, 4 I1, 5 I2, 6 +Vcc2

## opto,TCMT1109
designator U?
Optocoupler DC-IN 1-CH Transistor DC-OUT 4-Pin Mini-Flat T/R; Input Current: 0.06 A; Isolation Voltage: 3750.0 V; Lead-Free Status: Lead Free; Number of Channels: 1; Output Voltage: 70.0 V; Mounting Style: Surface Mount; Number of Pins: 4; Packaging: Tape & Reel (TR); REACH SVHC Compliance: No SVHC; RoHS: Compliant; Voltage Rating (DC): 70.0 V
footprint SSOP, 4-Leads (SSOP, 4-Leads, Body 4.45x2.65mm, Pitch 1.27mm)
pins: 1 A, 2 K, 3 E, 4 C

## Ref, 1.5V/3V, 5-3.02VdcIn, 20mA,REF2030AIDDCR
designator U?, comment REF2030AIDDCR
IC VREF SERIES 1.5V/3V 5SOT; Output Type: Fixed; Voltage - Output (Min/Fixed): 1.5/3Vdc; Current - Output: 20mA; Current - Supply: 460µA; Tolerance: ±0.05%; Temperature Coefficient: 8ppm/°C; Noise - 0.1Hz to 10Hz: 12ppmp-p; mfg P/N: REF2030AIDDCR; Operating Temperature: -40°C ~ 125°C (TJ); Mounting Type: Surface Mount; Package / Case: SOT-23-5 Thin, TSOT-23-5; Supplier Device Package: SOT-23-5
footprint SOT23-5
pins: 1 Vbias, 2 GND, 3 EN, 4 Vin, 5 Vref

## Reg,5.0V,0.8A,AZ1117CH-5.0TRG1
designator U?, comment AZ1117CH-5.0TRG1
AZ1117C Series 5 V 800 mA Fixed Low Dropout Linear Regulator - SOT-223; Voltage: 5.0V; Lead-Free Status: Lead Free; Temp Range: -20°C to +125°C; Current: 0.8A; Rule: PcbType=ProtelPcb; Mounting Style: Surface Mount; Package/Form Factor: SOT-223; Packaging: Tape & Reel (TR); Supplier 1: Digi-Key; Supplier Part Number 1: AZ1117CH-5.0TRG1DICT-ND; Supplier 2: LCSC; Supplier Part Number 2: C99342; Manufacturer Part Number: AZ1117CH-5.0TRG1
footprint SOT-223
pins: 1 GND (power), 2 OUT (power), 3 IN (power), 4 OUT (power)

## Reg, LDO, 3.3V fixed, 5.5-3.3Vdc In, 0.3mA,TLV703
designator U?, comment TLV70333DBVR
IC REG LINEAR 3.3V 300MA SOT23-5; Output Configuration: Positive; Output Type: Fixed; Number of Regulators: 1; Voltage - Input (Max): 5.5V; Voltage Dropout (Max): 0.375V @ 300mA; Current - Quiescent (Iq): 55µA; Current - Supply (Max): 370µA; PSRR: 68dB (1kHz); Control Features: Current Limit; Protection Features: Over Current; mfg P/N: TLV70333DBVR; Voltage - Output (Min/Fixed): 3.3V; Current - Output: 300mA; Operating Temperature: -40°C ~ 125°C (TJ); Mounting Type: Surface Mount; Package / Case: SC-74A, SOT-753; Supplier Device Package: SOT-23-5; Supplier 1: Digi-Key; Supplier Part Number 1: 296-47851-1-ND
footprint SOT23-5
pins: 1 IN, 2 GND, 3 EN, 4 NC, 5 OUT

## Reg, Switching, Buck,23-4.5Vdcin,2A,TPS54239EDDAR
designator U?, comment TPS54239
Buck Switching Regulator IC Positive Adjustable 0.76V 1 Output 2A 8-PowerSOIC (0.154", 3.90mm Width); mfg P/N: TPS54239EDDAR; Function: Step-Down; Number of Outputs: 1; Voltage - Input (Min): 4.5V; Voltage - Input (Max): 23V; Voltage - Output (Max): 7V; Frequency - Switching: 600kHz; Synchronous Rectifier: Yes; Output Configuration: Positive; Topology: Buck; Output Type: Adjustable; Voltage - Output (Min/Fixed): 0.76V; Current - Output: 2A; Operating Temperature: -40°C ~ 85°C (TA); Mounting Type: Surface Mount; Package / Case: 8-PowerSOIC (0.154", 3.90mm Width); Supplier Device Package: 8-SO PowerPad; Base Part Number: TPS54239; Supplier 1: Digi-Key; Supplier Part Number 1: 296-35689-1-ND
footprint SOIC-8 PowerPad(pin4) (SOIC, 8-Leads, Body 4.9x3.9mm, Pitch 1.27mm, IPC Medium Density)
pins: 1 VBST, 2 VIN, 3 SW, 4 GND, 5 VFB, 6 VREG5, 7 EN, 8 SS, 9 GND

## Reg, TO-220,150Vin - 1.25Vout,700ma, TL783CKCSE3
designator U2, comment TL783CKCSE3
Linear Voltage Regulator IC Positive Adjustable 1 Output 1.25 V ~ 125 V 700mA TO-220-3; Number of Regulators: 1; Voltage - Input (Max): 150V; Voltage - Output (Min/Fixed): 1.25V; Voltage - Output (Max): 125V; PSRR: 76dB (120Hz); Protection Features: Over Temperature, Short Circuit; mfg P/N: TL783CKCSE3; Current - Output: 700mA; Operating Temperature: 0°C ~ 125°C; Mounting Type: Through Hole; Package / Case: TO-220-3; Supplier 1: Digi-Key; Supplier Part Number 1: 296-20687-5-ND
footprint TO-220 (TO, Thru-Hole, Vertical, Heatsink Mounted; 3 In-Line Leads; Pitch 2.54 mm)
pins: 1 Adj, 2 OUT, 3 IN

## Reg,BUCK,BOOST,1.5A,3-36V,AZ34063UMTR-G1
designator Q?, comment AZ34063UMTR-G1  (value not drawn)
IC REG BUCK BST ADJ 1.5A 8SOIC; Manufacturer: Diodes Incorporated; Detailed Description: Buck, Boost Switching Regulator IC Positive or Negative Adjustable 1.25V 1 Output 1.5A (Switch) 8-SOIC (0.154", 3.90mm Width); Function: Step-Up, Step-Down; Output Configuration: Positive or Negative; Topology: Buck, Boost; Output Type: Adjustable; Number of Outputs: 1; Voltage - Input (Min): 3V; Voltage - Input: (Max) 36V; Voltage - Output (Min/Fixed): 1.25; Voltage - Output (Max): 36V; Current - Output: 1.5A (Switch); Frequency - Switching: Up to 180kHz; Synchronous Rectifier: No; mfg P/N: AZ34063UMTR-G1; Operating Temperature: -40°C ~ 85°C (TA); Mounting Type: Surface Mount; Package / Case: 8-SOIC (0.154", 3.90mm Width); Supplier Device Package: 8-SOIC; Supplier 1: Digi-Key; Supplier Part Number 1: AZ34063UMTR-G1DICT-ND; Supplier 2: LCSC; Supplier Part Number 2: C99659
footprint SOIC-8 (SOIC, 8-Leads, Body 4.9x3.9mm, Pitch 1.27mm, IPC Medium Density)
pins: 1 SW_C, 2, 3 TC, 4 GND, 5 COMP, 6 VCC, 7 Isense, 8 V_DRV

## Reg,Buck\Boost,ADJ,2.7V-5.5Vin,15Vto-15VOut,1.8A,1.38Mhz,TPS65131RGER
designator Q?, comment TPS65131RGER
IC REG BUCK BST ADJ DL 24VQFN; Manufacturer: Texas Instruments; Detailed Description: Boost, Buck-Boost Switching Regulator IC Positive and Negative (Dual Rail) Adjustable 3.2V, -2V 2 Output 1.8A (Switch) 24-VFQFN Exposed Pad; Function: Step-Up, Step-Up/Step-Down; Output Configuration: Positive and Negative (Dual Rail); Topology: Boost, Buck-Boost; Output Type: Adjustable; Number of Outputs: 2; Voltage - Input (Min): 2.7V; Voltage - Input (Max): 5.5V; Voltage - Output (Min/Fixed): 3.2V, -2V; Voltage - Output (Max): 15V, -15V; Current - Output: 1.8A (Switch); Frequency - Switching: 1.38MHz; Synchronous Rectifier: No; mfg P/N: TPS65131RGER; Part Status: Active; Operating Temperature: -40°C ~ 85°C (TA); Mounting Type: Surface Mount; Package / Case: 24-VFQFN Exposed Pad; Supplier Device Package: 24-VQFN (4x4); Supplier 1: Digi-Key; Supplier Part Number 1: 296-41760-1-ND; Supplier 2: LCSC; Supplier Part Number 2: C87663
footprint VQFN-24 (4x4) (VQFN-24 pin IC 4mm x 4mm)
pins: 1 INP , 2 PGND, 3 PGND, 4 Vin, 5 INN, 6 INN, 7 BSW, 8 ENP, 9 PSP, 10 ENN, 11 PSN, 12 NC, 13 OUTN, 14 OUTN, 15 VNEG, 16 FBN, 17 VREF, 18 CN, 19 AGND, 20 NC, 21 CP, 22 FBP, 23 VPOS, 24 INP, 25 POWER PAD

## Reg,Switching,Boost,2.6-16Vin,29Vout,0.5A, AP3012KTR-G1
designator Q?, comment AP3012KTR-G1
IC REG BOOST ADJ 500MA SOT23-5; Manufacturer: Diodes Incorporated; Detailed Description: Boost Switching Regulator IC Positive Adjustable 1.25V 1 Output 500mA (Switch) SC-74A, SOT-753; Function: Step-Up; Output Configuration: Positive; Output Type: Adjustable; Number of Outputs: 1; Voltage - Input (Min): 2.6V; Voltage - Input (Max): 16V; Voltage - Output (Min/Fixed): 1.25V; Voltage - Output (Max): 29V; Current - Output 500mA: (Switch); Frequency - Switching: 1.5MHz; S ynchronous Rectifier: No; Part Status: Active; Topology: Boost; Operating Temperature: -40°C ~ 85°C (TA); Mounting Type: Surface Mount; Package / Case: SC-74A, SOT-753; Supplier Device: Package SOT-23-5; Supplier 1: Digi-Key; Supplier Part Number 1: AP3012KTR-G1DICT-ND; Supplier 2: LCSC; Supplier Part Number 2: C102618; mfg P/N: AP3012KTR-G1
footprint SOT23-5
pins: 1 SW, 2 GND, 3 FB, 4 SHDN, 5 Vin

## Reg,Switching,Buck,6-75Vdc,1A,LM5010AMHX/NOPB
designator U?, comment LM5010AMHX/NOPB
IC REG BUCK ADJ 1A 14TSSOP; Detailed Description: Buck Switching Regulator IC Positive Adjustable 2.5V 1 Output 1A 14-TSSOP (0.173", 4.40mm Width) Exposed Pad; Function: Step-Down; Output Configuration: Positive; Output Type: Adjustable; Number of Outputs: 1; Voltage - Input (Min): 6V; Voltage - Input (Max): 75V; Voltage - Output (Min/Fixed): 2.5V; Voltage - Output (Max): 70V; Frequency - Switching: 100kHz ~ 1MHz; Synchronous Rectifier: No; mfg P/N: LM5010AMHX/NOPB; Topology: Buck; Current - Output: 1A; Operating Temperature: -40°C ~ 150°C (TJ); Mounting Type: Surface Mount; Package / Case: 14-TSSOP (0.173", 4.40mm Width) Exposed Pad; Supplier Device Package: 14-HTSSOP; Supplier 1: Digi-Key; Supplier Part Number 1: 296-35290-1-ND; Supplier 2: LCSC; Supplier Part Number 2: C412829
footprint HTSSOP-14 (14-TSSOP (0.173", 4.40mm Width) Exposed Pad)
pins: 1 NC, 2 SW, 3 BST, 4 Isen, 5 Sgnd, 6 RTN, 7 NC, 8 NC, 9 FB, 10 SS, 11 Ron/SD, 12 VCC, 13 VIN, 14 NC, 15 EP hidden

## Reg,Switching,Buck, 28-4.5Vdcin,1.5A,TPS54200
designator U, comment TPS54200DDCR  (value not drawn)
Buck Switching Regulator IC Positive Adjustable -0.1V 1 Output 1.5A SOT-23-6 Thin, TSOT-23-6; Function: Step-Down; Number of Outputs: 1; Voltage - Input (Min): 4.5V; Voltage - Input (Max): 28V; Frequency - Switching: 600kHz; Synchronous Rectifier: Yes; mfg P/N: TPS54200DDCR; Detailed Description: Buck Switching Regulator IC Positive Adjustable -0.1V 1 Output 1.5A SOT-23-6 Thin, TSOT-23-6; Output Configuration: Positive; Topology: Buck; Output Type: Adjustable; Voltage - Output (Min/Fixed): -0.1V; Voltage - Output (Max): 28V; Current - Output: 1.5A; Operating Temperature: -40°C ~ 125°C (TJ); Mounting Type: Surface Mount; Package / Case: SOT-23-6 Thin, TSOT-23-6; Supplier 1: LCSC; Supplier Part Number 1: C177139; Supplier 2: Digi-Key; Supplier Part Number 2: 296-47675-1-ND
footprint SOT23-6 (SOT23, 6-Leads, Body 3.0x1.7mm, Pitch 0.95mm, Lead Span 2.9mm, IPC High Density)
pins: 1 GND, 2 SW, 3 Vin, 4 FB, 5 PWM, 6 Boot

## Reg,Switching,Buck, 28-4.5Vdcin,2A,TPS54202HDDCR
designator U?, comment TPS54202HDDCR
Buck Switching Regulator IC Positive Adjustable 0.596V 1 Output 2A SOT-23-6 Thin, TSOT-23-6; Detailed Description: Buck Switching Regulator IC Positive Adjustable -0.1V 1 Output 1.5A SOT-23-6 Thin, TSOT-23-6; Function: Step-Down; Number of Outputs: 1; Voltage - Input (Min): 4.5V; Voltage - Input (Max): 28V; Frequency - Switching: 500kHz; Synchronous Rectifier: Yes; mfg P/N: TPS54202HDDCR; Output Configuration: Positive; Topology: Buck; Output Type: Adjustable; Voltage - Output (Min/Fixed): 0.596V; Voltage - Output (Max): 28V; Current - Output: 2A; Operating Temperature: -40°C ~ 125°C (TJ); Mounting Type: Surface Mount; Package / Case: SOT-23-6 Thin, TSOT-23-6; Supplier 1: Digi-Key; Supplier Part Number 1: 296-44396-1-ND
footprint SOT23-6 (SOT23, 6-Leads, Body 3.0x1.7mm, Pitch 0.95mm, Lead Span 2.9mm, IPC High Density)
pins: 1 GND, 2 SW, 3 Vin, 4 FB, 5 PWM, 6 Boot

## Reg,Switching,Buck-Boost,3-75Vdc,1A,LM5118MH/NOPB
designator U?, comment LM5118MH/NOPB
Buck, Buck-Boost Regulator Positive Output Step-Down, Step-Up/Step-Down DC-DC Controller IC 20-HTSSOP; Output Type: Transistor Driver; Number of Outputs: 1; Voltage - Supply (Vcc/Vdd): 3 V ~ 75 V; Frequency - Switching: 200kHz, 515kHz; Duty Cycle (Max): 80%; Synchronous Rectifier: No; Clock Sync: Yes; Control Features: Enable, Frequency Control, Ramp, Soft Start; mfg P/N: LM5118MH/NOPB; Detailed Description: Buck, Buck-Boost Regulator Positive Output Step-Down, Step-Up/Step-Down DC-DC Controller IC 20-HTSSOP; Function: Step-Down, Step-Up/Step-Down; Output Configuration: Positive; Topology: Buck, Buck-Boost; Output Phases: 1; Operating Temperature: -40°C ~ 125°C (TJ); Package / Case: 20-PowerTSSOP (0.173", 4.40mm Width); Supplier Device Package: 20-HTSSOP; Base Part Number: LM5118; Supplier 1: Digi-Key; Supplier Part Number 1: LM5118MH/NOPB-ND
footprint HTSSOP-20 (14-TSSOP (0.173", 4.40mm Width) Exposed Pad)
pins: 1 VIN, 2 UVLO, 3 RT, 4 EN, 5 RAMP, 6 AGND, 7 SS, 8 FB, 9 COMP, 10 VOUT, 11 SYNC, 12 CS, 13 CSG, 14 PGND, 15 LO, 16 VCC, 17 VCCX, 18 HB, 19 HO, 20 HS, 21 EP hidden

## Relay,DPDT,2A,250VAC, 220VDC,5Vdc,EE2-5NU
designator Rly?, comment EE2-5NU  (value not drawn)
RELAY GEN PURPOSE DPDT 2A 5VDC; Manufacturer: KEMET; Contact Form: DPDT (2 Form C); Switching Voltage: 250VAC, 220VDC - Max; Coil Current: 28.0mA; Coil Type: Non Latching; Must Operate Voltage: 3.75 VDC; Must Release Voltage: 0.5 VDC; Operate Time: 2ms; Release Time: 1ms; Relay Type: General Purpose; Coil Resistance: 178 Ohms; mfg p/n: EE2-5NU; Mounting Type: Surface Mount; Coil Voltage: 5VDC; Contact Rating (Current): 2A; Termination Style: Gull Wing; Operating Temperature: -40°C ~ 85°C; Contact Material: Silver Alloy, Gold Alloy; Supplier 1: Digi-Key; Supplier Part Number 1: 399-11056-5-ND
footprint Relay,SMD,Gull Wing,DPDT (2 Form C),EE2-5NU (General Purpose Relay DPDT (2 Form C) Surface Mount)
pins: 1 C+, 2 C-, 3, 4, 5, 6, 7, 8

## Relay,SPST,31A,250VAC,ALFG2PF12
designator Rly?, comment ALFG2PF12  (value not drawn)
General Purpose Relay SPST-NO (1 Form A) 12VDC Coil Through Hole; Manufacturer: Panasonic Electric Works; Coil Type: Non Latching; Coil Current: 117mA; Contact Rating (Current): 31A; Switching Voltage: 250VAC - Max; Turn On Voltage (Max): 8.4 VDC; Turn Off Voltage (Min): 1.2 VDC; Operate Time: 20ms; Release Time: 10ms; Coil Power: 1.4 W; Coil Resistance: 103 Ohms; mfg P/N: ALFG2PF12; Relay Type: General Purpose; Coil Voltage: 12VDC; Contact Form: SPST-NO (1 Form A); Features: Insulation - Class F; Mounting Type: Through Hole; Termination Style: PC Pin; Operating Temperature: 40°C ~ 60°C; Contact Material: Silver Tin Oxide (AgSnO); Supplier 1: Digi-Key; Supplier Part Number 1: 255-2638-ND; Supplier 2: LCSC; Supplier Part Number 2: C425090
footprint Relay,ALFG2PF12 (General Purpose Relay SPST-NO (1 Form A) 12VDC Coil Through Hole)
pins: 1 COIL_B, 2 COIL_A, 3 NO, 4 Com

## Res,0603,1kΩ,5%,100ppm,RCR0603-JW-102ELF
designator R?, comment Resistance: 1kΩ  (hidden comment: Res,0603,1kΩ,5%,200ppm,CR0603-JW-102ELF)
RES SMD 1K OHM 5% 1/10W 0603; Lead-Free Status: Lead Free; Power Rating: 0.1 W; Voltage Rating (DC): 50.0 V; Temperature Coefficient: ±200ppm/°C; Packaging: Cut Tape (CT); RoHS: Compliant; Size-Width: 0.0008 m; Resistance Tolerance: ±5%; Size-Length: 0.0016 m; Number of Pins: 2; Manufacturer Part Number: CR0603-JW-102ELF; Mounting Style: Surface Mount; Case/Package: 0603; Size-Height: 0.00045 m; REACH SVHC Compliance: No SVHC
footprint Res, 0603 (Chip Resistor, 2-Leads, Body 1.60x0.80mm, IPC Medium Density)
pins: 1, 2

## Res,0603,1Meg,5%,100ppm,Yageo AC0603JR-071ML
designator R?, comment Resistance: 1MΩ  (hidden comment: Res1)  (graphical)
Thick Film Resistors - SMD 1M ohm 5% 1/10W / Learn More; Manufacturer Part Number: AC0603JR-071ML; Voltage Rating: 50 V; Power Rating: 100 mW; Temperature Coefficient: 100 PPM / C; CiivaID: 1871807; Value: 1000000; Termination Style: SMD/SMT; Operating Temperature Range: - 55 C to + 155 C; Case Code - in: 0603; Product: Thick Film Resistors SMD; Case Code - mm: 1608; Ciiva URL: https://ciiva.com/part/ac0603jr-071ml-1871807; Series: AC; Tolerance: 5 %; Packaging: Reel
simulation model Model Name (Model Description)
footprint Res, 0603 (Chip Resistor, 2-Leads, Body 1.60x0.80mm, IPC Medium Density)
pins: 1, 2
1 alternate drawing of the same symbol

## Res,0603,2.2kΩ,5%,100ppm,RC0603JR-072K2L
designator R?  Resistance: 2.2kΩ  (hidden comment: Res,0603,2.2kΩ,5%,100ppm,RC0603JR-072K2L)
Surface Mount Thick Film Resistor, RC Series, 2.2 kohm, 100 mW, - 5%, 50 V, 0603 [1608 Metric]; Lead-Free Status: Lead Free; Power Rating: 0.1 W; Voltage Rating (DC): 50.0 V; Temperature Coefficient: ±100ppm/°C; Packaging: Cut Tape (CT); RoHS: Compliant; Size-Width: 0.0008 m; Resistance Tolerance: ±5%; Size-Length: 0.0016 m; Number of Pins: 2; Manufacturer Part Number: RC0603JR-072K2L; Mounting Style: Surface Mount; Case/Package: 0603; Size-Height: 0.00045 m; Seller Landing  Url: https://octopart-clicks.com/click/track?country=US&ak=8157f166&sig=0793df7&sid=5489&ppid=55508104&vpid=115097122&ct=offers; REACH SVHC Compliance: No SVHC; Supplier 1: Newark; Supplier 2: Farnell; Supplier 3: Digi-Key; Supplier 4: Newark; Supplier 5: Farnell; Supplier 6: Digi-Key; Supplier 7: TME; Supplier 8: Digi-Key
footprint Res, 0603 (Chip Resistor, 2-Leads, Body 1.60x0.80mm, IPC Medium Density)
simulation model Model Name (Model Description)
pins: 1, 2

## Res,0603,10K,5%,100ppm,RC0603JR-0710KL
designator R?, comment Resistance: 10KΩ  (hidden comment: Yageo RC0603JR-0710KL)
RC Series 0603 0.1 W 10 kOhms 5% ±100 ppm/°C SMT Thick Film Chip Resistor; Lead-Free Status: Lead Free; Voltage Rating (DC): 50.0 V; Power Rating: 0.1 W; Case/Package: 0603; Resistance Tolerance: ±5%; Size-Width: 0.0008 m; Size-Length: 0.0016 m; Manufacturer Part Number: RC0603JR-0710KL; Packaging: Cut Tape (CT), Tape & Reel (TR); Mounting Style: Surface Mount; RoHS: Compliant; OctopartID: 494d8056daa7968a; Number of Pins: 2; REACH SVHC Compliance: No SVHC; Size-Height: 0.00045 m; Octopart URL: http://octopart.com/rc0603jr-0710kl-yageo-1160844
simulation model Model Name (Model Description)
footprint Res, 0603 (Chip Resistor, 2-Leads, Body 1.60x0.80mm, IPC Medium Density)
pins: 1, 2

## Res,0603,10Meg,1%,100ppm,Vishay Dale CRCW080510M0FKEA
designator R?, comment Resistance: 10meg Ω  (hidden comment: Vishay Dale CRCW080510M0FKEA)
RES SMD 10M OHM 1% 1/8W 0805; Case/Package (SI): 2012; Lead-Free Status: Lead Free; Power Rating: 0.125 W; Temperature Coefficient: 100.0 ppm/°C; Voltage Rating (DC): 150.0 V; Case/Package: 0805; Mounting Style: Surface Mount; Number of Pins: 2; Octopart Url: https://octopart.com/crcw080510m0fkea-vishay-39455142; OctopartID: 13cad89a3f0acc0d; REACH SVHC Compliance: No SVHC; Resistance Tolerance: ±1%; RoHS: Compliant; Size-Height: 0.00045 m; Size-Length: 0.002 m; Size-Width: 0.00125 m
footprint Res, 0603 (Chip Resistor, 2-Leads, Body 1.60x0.80mm, IPC Medium Density)
simulation model Model Name (Model Description)
pins: 1, 2
1 alternate drawing of the same symbol

## Res,0603,22.1K,1%,100ppm,Bourns CR0603-FX-2212ELF
designator R?, comment Resistance: 22.1KΩ  (hidden comment: Bourns CR0603-FX-2212ELF)
22.1 kOhms ±1% 0.1W, 1/10W Chip Resistor 0603 (1608 Metric) Moisture Resistant Thick Film; Lead-Free Status: Lead Free; Voltage Rating (DC): 50.0 V; Case/Package: 0603; Resistance Tolerance: ±1%; Size-Width: 0.0008 m; Size-Length: 0.0016 m; Mounting Style: Surface Mount; RoHS: Compliant; Power Rating: 0.1 W; Number of Pins: 2; REACH SVHC Compliance: No SVHC; Size-Height: 0.00045 m
footprint Res, 0603 (Chip Resistor, 2-Leads, Body 1.60x0.80mm, IPC Medium Density)
pins: 1, 2

## Res,0603,30KΩ,5%,100ppm,Yageo RC0603JR-0730KL
designator R?, comment Resistance: 30KΩ  (hidden comment: Yageo RC0603JR-0730KL)
RES SMD 30K OHM 5% 1/10W 0603; Lead-Free Status: Lead Free; Power Rating: 0.1 W; Voltage Rating (DC): 50.0 V; Case/Package: 0603; Mounting Style: Surface Mount; Number of Pins: 2; Octopart Url: https://octopart.com/rc0603jr-0730kl-yageo-1231975; OctopartID: a3c56add4ac47c02; Packaging: Cut Tape (CT); Resistance Tolerance: ±5%; RoHS: Compliant; Size-Height: 0.00045 m; Size-Length: 0.0016 m; Size-Width: 0.0008 m
footprint Res, 0603 (Chip Resistor, 2-Leads, Body 1.60x0.80mm, IPC Medium Density)
pins: 1, 2
1 alternate drawing of the same symbol

## Res,0603,47.5K,5%,100ppm,RC0603FR-0747K5L
designator R?, comment Resistance: 47.5KΩ  (hidden comment: Yageo RC0603FR-0747K5L)
47.5 kOhms ±1% 0.1W, 1/10W Chip Resistor 0603 (1608 Metric) Moisture Resistant Thick Film; Lead-Free Status: Lead Free; Voltage Rating (DC): 50.0 V; Case/Package: 0603; Resistance Tolerance: ±1%; Size-Width: 0.0008 m; Size-Length: 0.0016 m; Mounting Style: Surface Mount; RoHS: Compliant; Power Rating: 0.1 W; Number of Pins: 2; REACH SVHC Compliance: No SVHC; Size-Height: 0.00045 m
footprint Res, 0603 (Chip Resistor, 2-Leads, Body 1.60x0.80mm, IPC Medium Density)
pins: 1, 2

## Res,0603,100K,5%,100ppm,Yageo RC0603JR-10100KL
designator R?, comment Resistance: 100K Ω  (hidden comment: Yageo RC0603JR-10100KL)
YAGEO   RC0603JR-10100KL   THICK FILM RESISTOR, 100KOHM, 100mW, 5%; Power Rating: 0.1 W; Voltage Rating (DC): 50.0 V; Case/Package: 0603; Mounting Style: Surface Mount; Number of Pins: 2; Octopart Url: https://octopart.com/rc0603jr-10100kl-yageo-12819554; OctopartID: 165fdf96af5bc998; Packaging: Cut Tape (CT); Resistance Tolerance: ±5%; RoHS: Compliant; Size-Length: 0.0016 m
footprint Res, 0603 (Chip Resistor, 2-Leads, Body 1.60x0.80mm, IPC Medium Density)
simulation model Model Name (Model Description)
pins: 1, 2
1 alternate drawing of the same symbol

## Res,0603,100Ω,5%,100ppm,RC0603JR-07100RL
designator R?, comment Resistance: 100.0 Ω  (hidden comment: YAGEO RC0603JR-07100RL)
RC Series 0603 0.1 W 100 Ohms 5% ±100 ppm/°C SMT Thick Film Chip Resistor; Power Rating: 0.1 W; Lead-Free Status: Lead Free; Voltage Rating (DC): 50.0 V; Case/Package: 0603; Resistance Tolerance: ±5%; Seller Landing  Url: https://octopart-clicks.com/click/track?country=US&ak=8157f166&sig=0e66b61&sid=5489&ppid=55458504&vpid=114937396&ct=offers; RoHS: Compliant; Size-Length: 0.0016 m; REACH SVHC Compliance: No SVHC; Mounting Style: Surface Mount; Size-Width: 0.0008 m; Number of Pins: 2; Size-Height: 0.00045 m; Packaging: Cut Tape (CT); Manufacturer Part Number: RC0603JR-07100RL
footprint Res, 0603 (Chip Resistor, 2-Leads, Body 1.60x0.80mm, IPC Medium Density)
pins: 1, 2

## Res,0603,270kΩ,5%,200ppm,Stackpole RMCF0603JT270K
designator R?, comment Resistance: 270kΩ  (hidden comment: Res,0603,270kΩ,5%,200ppm,Stackpole RMCF0603JT270K,RMCF0603JT270K)
270 kOhms ±5% 0.1W, 1/10W Chip Resistor 0603 (1608 Metric) Automotive AEC-Q200 Thick Film; Lead-Free Status: Lead Free; Voltage Rating (DC): 50.0 V; Temperature Coefficient: ±200ppm/°C; Packaging: Cut Tape (CT); RoHS: Compliant; Size-Width: 0.0008 m; Resistance Tolerance: ±5%; Size-Length: 0.0016 m; Number of Pins: 2; Manufacturer Part Number: RMCF0603JT270K; Mounting Style: Surface Mount; Power Rating: 0.1 W; Case/Package: 0603; Size-Height: 0.00045 m; REACH SVHC Compliance: No SVHC
simulation model Model Name (Model Description)
footprint Res, 0603 (Chip Resistor, 2-Leads, Body 1.60x0.80mm, IPC Medium Density)
pins: 1, 2

## Res,0603,475K,%5,100ppm,Yageo RC0603FR-07475KL
designator R?, comment Resistance: 475 kΩ  (hidden comment: Yageo RC0603FR-07475KL)
RC Series 0603 0.1 W 475 kOhms 1% ±100 ppm/°C SMT Thick Film Chip Resistor; Power Rating: 100 mW; Voltage Rating (DC): 50.0 V; Lead-Free Status: Lead Free; Case/Package (SI): 1608; Octopart URL: http://octopart.com/rc0603fr-07475kl-yageo-1239869; Manufacturer Part Number: RC0603FR-07475KL; Case/Package: 0603; Size-Width: 800 µm; RoHS: Compliant; Resistance Tolerance: ±1%; Packaging: Cut Tape (CT); Size-Length: 1.60 mm; Size-Height: 450 µm; Mounting Style: Surface Mount; OctopartID: f4813d993ada2b46
footprint Res, 0603 (Chip Resistor, 2-Leads, Body 1.60x0.80mm, IPC Medium Density)
pins: 1, 2

## Res,0603,475ohm,1%,±100ppm/°C
designator R?, comment 475 Ohms
475 Ohms ±1% 0.1W, 1/10W Chip Resistor 0603 (1608 Metric) Automotive AEC-Q200 Thick Film; Manufacturer: Stackpole Electronics Inc.; mfg P/N: RMCF0603FT475R; Temperature Coefficient: ±100ppm/°C; Tolerance: ±1%; Power (Watts): 0.1W, 1/10W; Resistance: 475 Ohms; Features: Automotive AEC-Q200; Operating Temperature: -55°C ~ 155°C; Package / Case: 0603 (1608 Metric); Supplier Device Package: 0603; Size / Dimension: 0.061" L x 0.031" W (1.55mm x 0.80mm); Height - Seated (Max): 0.022" (0.55mm)
footprint Res, 0603 (Chip Resistor, 2-Leads, Body 1.60x0.80mm, IPC Medium Density)
pins: 1, 2

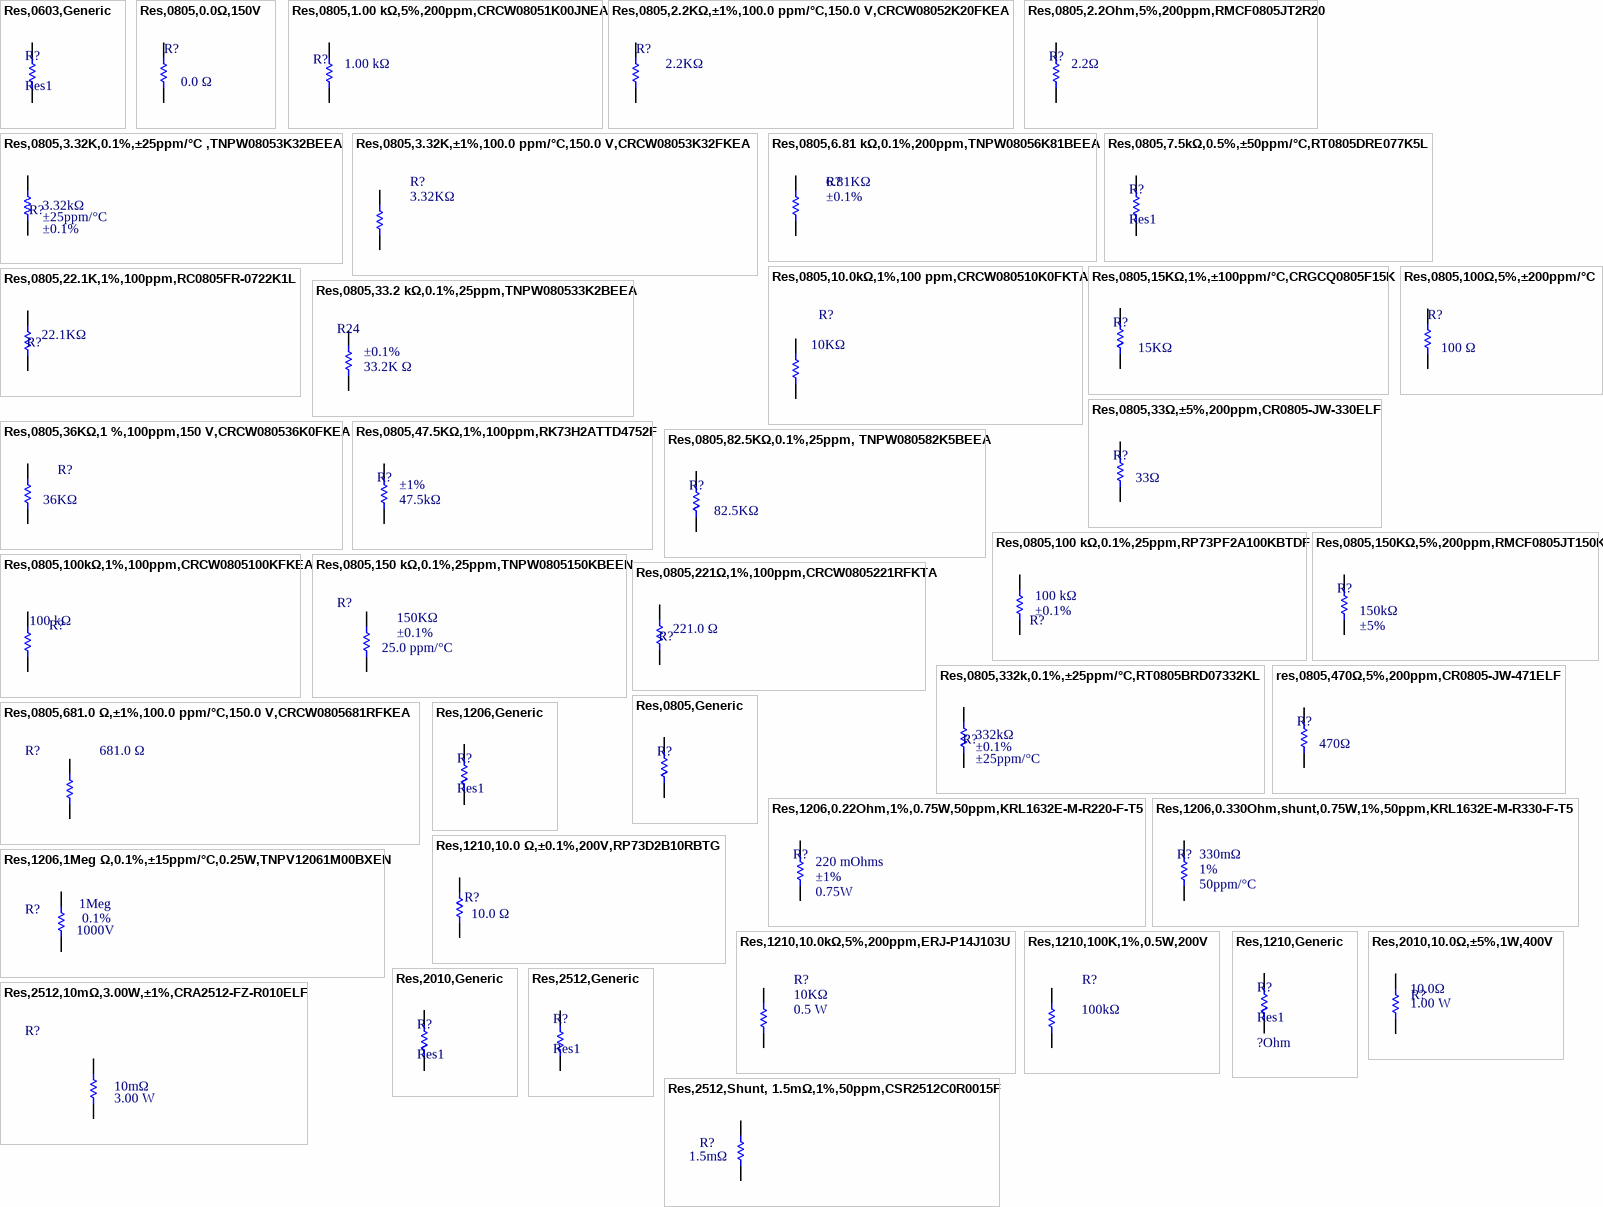
[diagram p8: symbols Res,0603,Generic to Res,2512,Shunt, 1.5mΩ,1%,50ppm,CSR2512C0R0015F]

## Res,0603,Generic
designator R?, comment Res1
footprint Res, 0603 (Chip Resistor, 2-Leads, Body 1.60x0.80mm, IPC Medium Density)
pins: 1, 2

## Res,0805,0.0Ω,150V
designator R?, comment Resistance: 0.0 Ω  (hidden comment: Res1)
RES SMD 0.0 OHM JUMPER 1/3W 0805; Lead-Free Status: Lead Free; Power Rating: 0.125 W; Voltage Rating (DC): 150.0 V; Case/Package: 0805; Number of Pins: 2; Octopart Url: https://octopart.com/crcw08050000z0eahp-vishay-44321084; RoHS: Compliant
footprint res, 0805, HD (Resistor, 0805, High Density foot print)
pins: 1, 2
1 alternate drawing of the same symbol